# Altium schematic symbol library CurrentSenseResistors.SchLib: 1 symbol
Pins are listed as number, name and electrical type; pins without a type are passive.

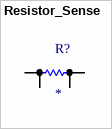
[diagram p0: symbol Resistor_Sense]

## Resistor_Sense
designator R?
Resistor, single, 4 pins
pins: 1, 2, 3, 4